# EAGLE library part SMDTOP-16 (library con-amp_edit)
AMP connector
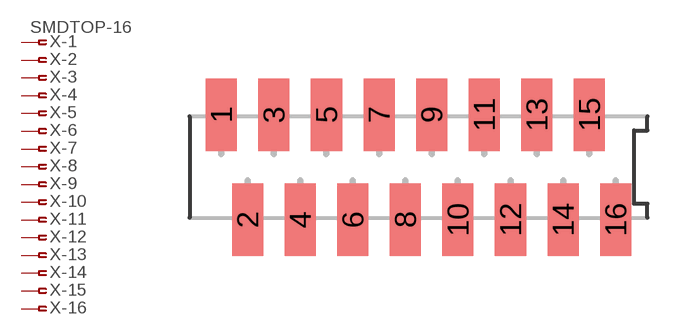
[diagram p85: symbol with the pads of SMDTOP16; footprint SMDTOP16]

Designator prefix X; gates -1=PIN-FV -2=PIN-F -3=PIN-F -4=PIN-F -5=PIN-F -6=PIN-F -7=PIN-F -8=PIN-F -9=PIN-F -10=PIN-F -11=PIN-F -12=PIN-F -13=PIN-F -14=PIN-F -15=PIN-F -16=PIN-F

## SMDTOP-16  [SMDTOP16]
1  -1:1  pas
2  -2:1  pas
3  -3:1  pas
4  -4:1  pas
5  -5:1  pas
6  -6:1  pas
7  -7:1  pas
8  -8:1  pas
9  -9:1  pas
10  -10:1  pas
11  -11:1  pas
12  -12:1  pas
13  -13:1  pas
14  -14:1  pas
15  -15:1  pas
16  -16:1  pas

## Footprint SMDTOP16 (pad centres in mm)
AMP connector
smd 1.5 x 3.5: 1 -9.525,2.54; 2 -8.255,-2.54; 3 -6.985,2.54; 4 -5.715,-2.54; 5 -4.445,2.54; 6 -3.175,-2.54; 7 -1.905,2.54; 8 -0.635,-2.54; 9 0.635,2.54; 10 1.905,-2.54; 11 3.175,2.54; 12 4.445,-2.54; 13 5.715,2.54; 14 6.985,-2.54; 15 8.255,2.54; 16 9.525,-2.54